# EAGLE library part ADAU1452 (library audioic)
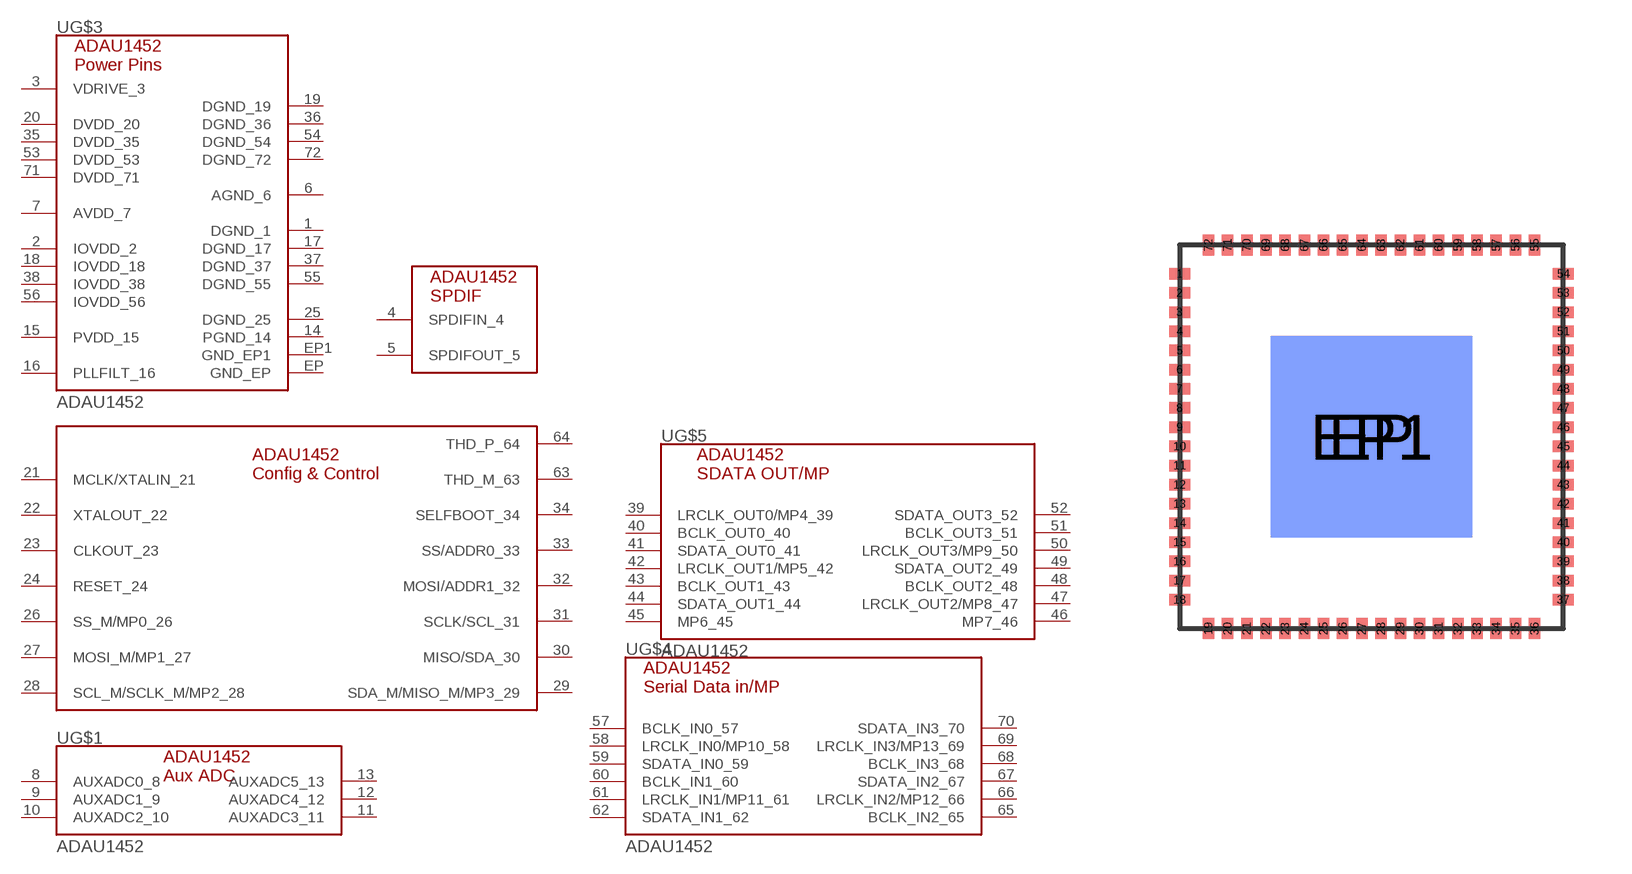
[diagram p1: symbol with the pads of 72-LEADLFCSP_VQ; footprint 72-LEADLFCSP_VQ]

Designator prefix -; gates G$1=ADAU1452_AUXADC G$2=ADAU1452_CLKCTRL G$3=ADAU1452_POWER G$4=ADAU1452_SDATAIN G$5=ADAU1452_SDATAOUT G$6=ADAU1452_SPDIF

## ADAU1452WBCPZ  [72-LEADLFCSP_VQ]
1  G$3:DGND_1
2  G$3:IOVDD_2
3  G$3:VDRIVE_3
4  G$6:SPDIFIN_4
5  G$6:SPDIFOUT_5
6  G$3:AGND_6
7  G$3:AVDD_7
8  G$1:AUXADC0_8
9  G$1:AUXADC1_9
10  G$1:AUXADC2_10
11  G$1:AUXADC3_11
12  G$1:AUXADC4_12
13  G$1:AUXADC5_13
14  G$3:PGND_14
15  G$3:PVDD_15
16  G$3:PLLFILT_16
17  G$3:DGND_17
18  G$3:IOVDD_18
19  G$3:DGND_19
20  G$3:DVDD_20
21  G$2:MCLK/XTALIN_21
22  G$2:XTALOUT_22
23  G$2:CLKOUT_23
24  G$2:RESET_24
25  G$3:DGND_25
26  G$2:SS_M/MP0_26
27  G$2:MOSI_M/MP1_27
28  G$2:SCL_M/SCLK_M/MP2_28
29  G$2:SDA_M/MISO_M/MP3_29
30  G$2:MISO/SDA_30
31  G$2:SCLK/SCL_31
32  G$2:MOSI/ADDR1_32
33  G$2:SS/ADDR0_33
34  G$2:SELFBOOT_34
35  G$3:DVDD_35
36  G$3:DGND_36
37  G$3:DGND_37
38  G$3:IOVDD_38
39  G$5:LRCLK_OUT0/MP4_39
40  G$5:BCLK_OUT0_40
41  G$5:SDATA_OUT0_41
42  G$5:LRCLK_OUT1/MP5_42
43  G$5:BCLK_OUT1_43
44  G$5:SDATA_OUT1_44
45  G$5:MP6_45
46  G$5:MP7_46
47  G$5:LRCLK_OUT2/MP8_47
48  G$5:BCLK_OUT2_48
49  G$5:SDATA_OUT2_49
50  G$5:LRCLK_OUT3/MP9_50
51  G$5:BCLK_OUT3_51
52  G$5:SDATA_OUT3_52
53  G$3:DVDD_53
54  G$3:DGND_54
55  G$3:DGND_55
56  G$3:IOVDD_56
57  G$4:BCLK_IN0_57
58  G$4:LRCLK_IN0/MP10_58
59  G$4:SDATA_IN0_59
60  G$4:BCLK_IN1_60
61  G$4:LRCLK_IN1/MP11_61
62  G$4:SDATA_IN1_62
63  G$2:THD_M_63
64  G$2:THD_P_64
65  G$4:BCLK_IN2_65
66  G$4:LRCLK_IN2/MP12_66
67  G$4:SDATA_IN2_67
68  G$4:BCLK_IN3_68
69  G$4:LRCLK_IN3/MP13_69
70  G$4:SDATA_IN3_70
71  G$3:DVDD_71
72  G$3:DGND_72
EP  G$3:GND_EP
EP1  G$3:GND_EP1

## Footprint 72-LEADLFCSP_VQ (pad centres in mm)
smd 0.55 x 0.3: 1 0,9.25; 2 0,8.75; 3 0,8.25; 4 0,7.75; 5 0,7.25; 6 0,6.75; 7 0,6.25; 8 0,5.75; 9 0,5.25; 10 0,4.75; 11 0,4.25; 12 0,3.75; 13 0,3.25; 14 0,2.75; 15 0,2.25; 16 0,1.75; 17 0,1.25; 18 0,0.75; 37 10,0.75; 38 10,1.25; 39 10,1.75; 40 10,2.25; 41 10,2.75; 42 10,3.25; 43 10,3.75; 44 10,4.25; 45 10,4.75; 46 10,5.25; 47 10,5.75; 48 10,6.25; 49 10,6.75; 50 10,7.25; 51 10,7.75; 52 10,8.25; 53 10,8.75; 54 10,9.25
smd 0.3 x 0.55: 19 0.75,0; 20 1.25,0; 21 1.75,0; 22 2.25,0; 23 2.75,0; 24 3.25,0; 25 3.75,0; 26 4.25,0; 27 4.75,0; 28 5.25,0; 29 5.75,0; 30 6.25,0; 31 6.75,0; 32 7.25,0; 33 7.75,0; 34 8.25,0; 35 8.75,0; 36 9.25,0; 55 9.25,10; 56 8.75,10; 57 8.25,10; 58 7.75,10; 59 7.25,10; 60 6.75,10; 61 6.25,10; 62 5.75,10; 63 5.25,10; 64 4.75,10; 65 4.25,10; 66 3.75,10; 67 3.25,10; 68 2.75,10; 69 2.25,10; 70 1.75,10; 71 1.25,10; 72 0.75,10
smd 5.25 x 5.25: EP 5,5
smd 5.25 x 5.25 bottom: EP1 5,5